# EAGLE library part TRANSFORMER (library HyTechDevices - ECX_42)
2 Channel SMT Transformer Turns ratio: 1CT: 1CT Isolation Voltage: 4300 VDC Inductance: 150 uH Leakage Inductance: 0.50 uH max DataSheet <https://www.mouser.com/datasheet/2/336/HM2102NL-1218600.pdf>
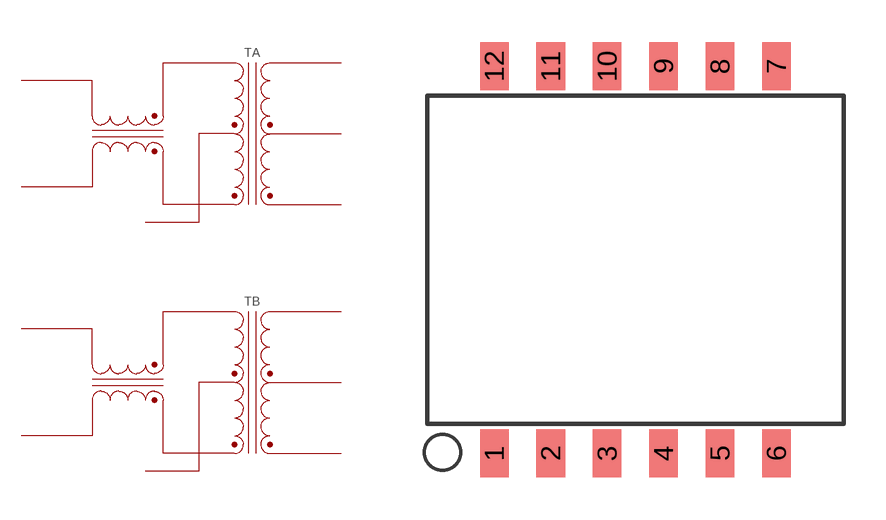
[diagram p0: symbol with the pads of HM2102NLT; footprint HM2102NLT]

Designator prefix T; gates A=TRANSFORMER B=TRANSFORMER

## TRANSFORMER (DKPN: 1840-1034-1-ND; MANUFACTURER: Pulse Electronics Network; MOPN: 673-HM2102NLT; MPN: HM2102NLT)  [HM2102NLT]
1  A:MX+  pas
2  A:MCT  pas
3  A:MX-  pas
4  B:MX+  pas
5  B:MCT  pas
6  B:MX-  pas
7  B:TD-  pas
8  B:TCT  pas
9  B:TD+  pas
10  A:TD-  pas
11  A:TCT  pas
12  A:TD+  pas

## Footprint HM2102NLT (pad centres in mm)
HM2102NL Transformer Datasheet <https://www.mouser.com/datasheet/2/336/HM2102NL-1218600.pdf>
smd 1.016 x 1.714: 1 -5.016,-6.89; 2 -3.01,-6.89; 3 -1.003,-6.89; 4 1.003,-6.89; 5 3.01,-6.89; 6 5.016,-6.89; 7 5.016,6.89; 8 3.01,6.89; 9 1.003,6.89; 10 -1.003,6.89; 11 -3.01,6.89; 12 -5.016,6.89